# Altium footprint library Stm32_pcb_lib.PcbLib: 16 footprints
Each footprint in its own frame and in the unit in brackets; x right, y up, seen from the top. Pads: shape width x height; smd on the part's side, far side on the other; paste and mask are expansions set on the pad; w line width, h text height; cw(c..) or ccw(c..) is an arc to the next point about the centre after c.
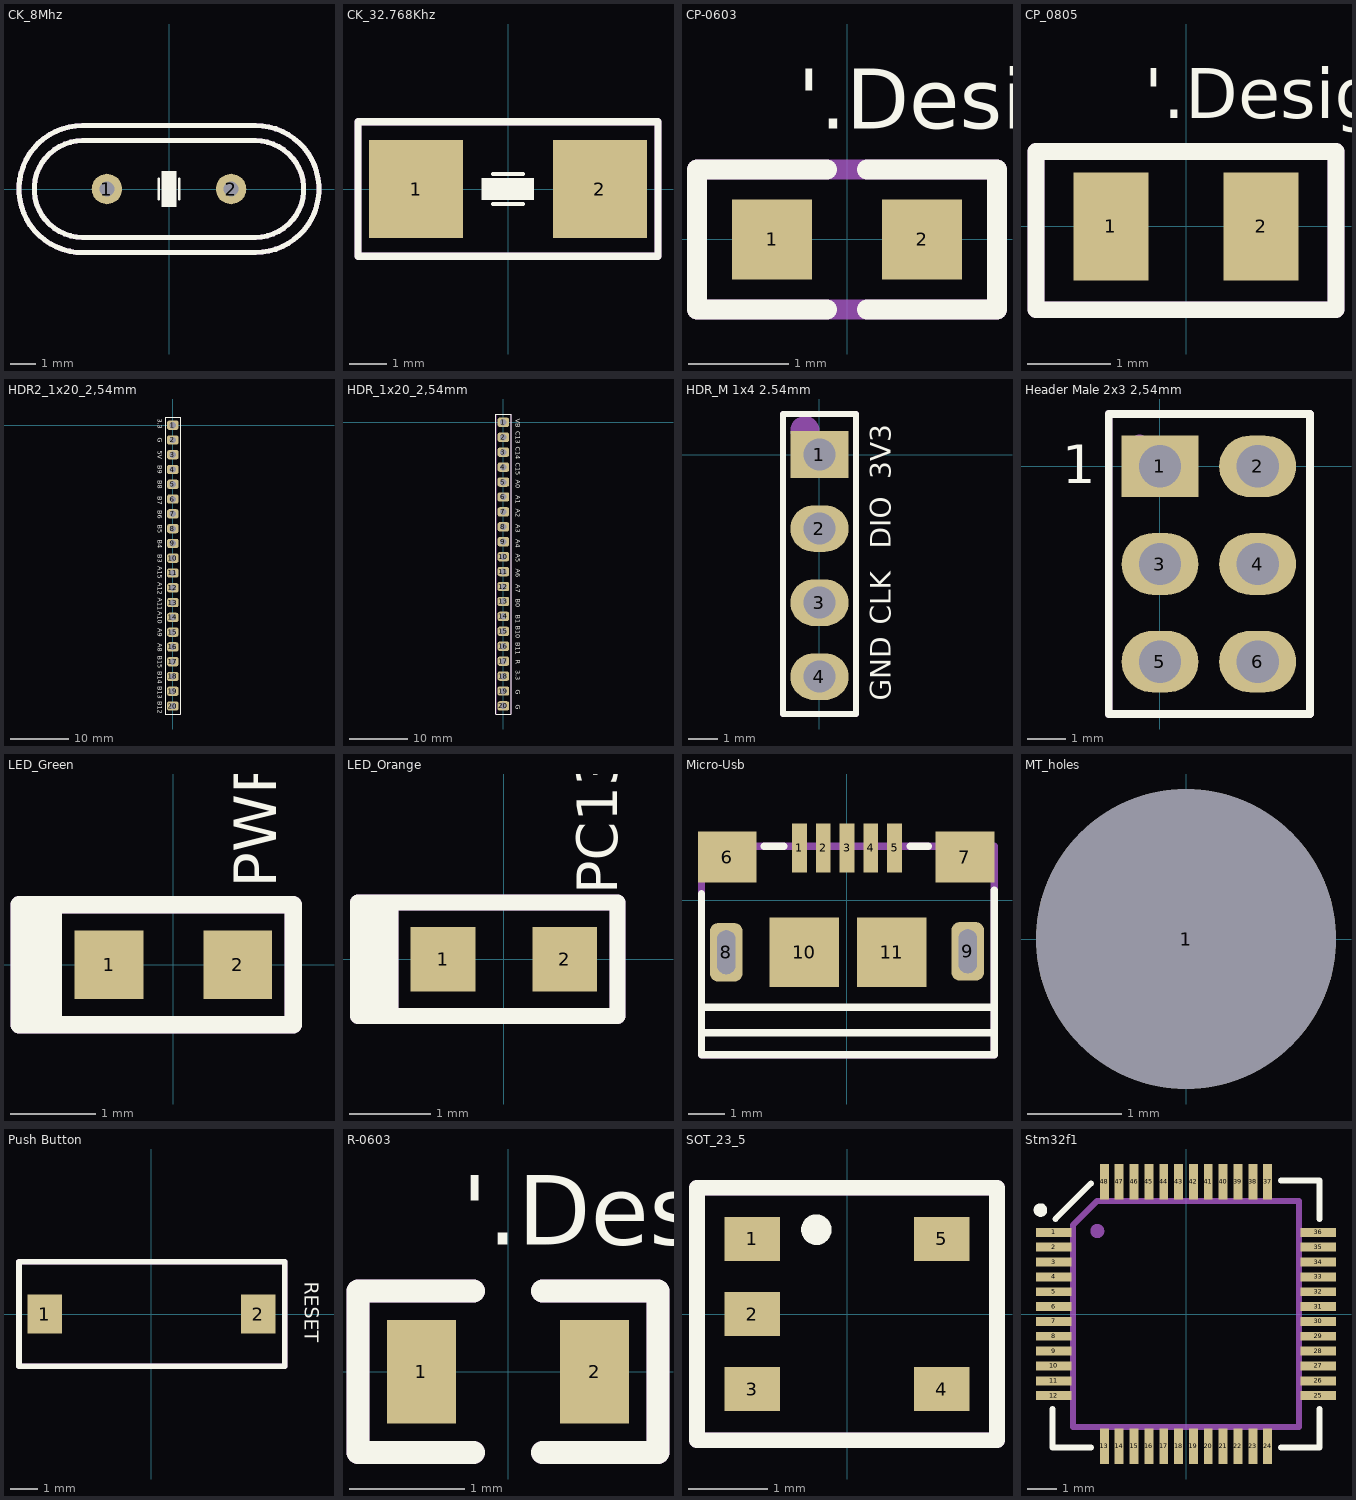
[diagram p0: the footprints below, top view; thin cyan lines are the x and y axes]

## CK_8Mhz [mm]
pads (2):
  round 1.2 hole 0.6: 1(-2.44,0) 2(2.44,0)
Top Overlay:
  rectangle: -0.3,-0.7 0.3,0.7
  lines w0.1: -0.4,-0.4 -0.4,0.4 ; 0.4,-0.4 0.4,0.4
  lines w0.2: -3.356,-2.5 3.4,-2.5 ccw(c3.4,0) 3.4,2.5 -3.4,2.5 ccw(c-3.4,0) -3.356,-2.5 ; -3.4,-1.9 cw(c-3.4,0) -3.4,1.9 3.4,1.9 cw(c3.4,0) 3.4,-1.9 -3.4,-1.9
Assembly Notes:
  lines w0.2: -3.356,-2.5 3.4,-2.5 ccw(c3.4,0) 3.4,2.5 -3.4,2.5 ccw(c-3.4,0) -3.356,-2.5 ; -3.4,-1.9 cw(c-3.4,0) -3.4,1.9 3.4,1.9 cw(c3.4,0) 3.4,-1.9 -3.4,-1.9
  text "'.Designator'" at -1.146,-0.863 h1.52
3D body "ABRACON_ABL-8.000MHZ-B2.STEP": height 3.51, standoff -2.06, extent -5.75,-2.5 5.75,2.5

## CK_32.768Khz [mm]
pads (2):
  rect 2.5x2.6 smd: 1(-2.45,0) 2(2.45,0)
Top Overlay:
  rectangle: -0.7,-0.3 0.7,0.3
  lines w0.1: -0.4,-0.4 0.4,-0.4 ; -0.4,0.4 0.4,0.4
  lines w0.2: -4,-1.8 -4,1.8 4,1.8 4,-1.8 -4,-1.8
Assembly Notes:
  lines w0.2: -4,-1.8 -4,1.8 4,1.8 4,-1.8 -4,-1.8
  text "'.Designator'" at -1.146,-0.938 h1.52
3D body "User Library-ABM7.step": height 1.45, standoff 0.01, extent -3.05,-1.75 3.05,1.75

## CP-0603 [mm]
pads (2):
  rect 0.8x0.8 smd: 1(-0.75,0) 2(0.75,0)
Top Overlay:
  lines w0.2: -0.2,-0.7 -1.5,-0.7 -1.5,0.7 -0.2,0.7 ; 0.2,-0.7 0.3,-0.7 1.5,-0.7 1.5,0.7 0.2,0.7
  text "'.Designator'" at -0.49,1.11 h0.6
Assembly Notes:
  lines w0.2: -1.5,-0.7 -0.2,-0.7 0.2,-0.7 0.3,-0.7 1.5,-0.7 1.5,0.7 0.2,0.7 -0.2,0.7 -1.5,0.7 -1.5,-0.7
  text "'.Designator'" at -0.49,-0.39 h0.6
3D body "User Library-SMD CAPACITOR.step": height 0.81, standoff 0.01, extent -0.8,-0.4 0.8,0.4

## CP_0805 [mm]
pads (2):
  rect 0.9x1.3 smd: 1(-0.9,0) 2(0.9,0)
Top Overlay:
  lines w0.2: -1.8,-1 -1.8,0.9 1.8,0.9 1.8,-1 -1.8,-1
  text "'.Designator'" at -0.5,1.3 h0.6
Assembly Notes:
  lines w0.2: -1.8,-1 -1.8,0.9 1.8,0.9 1.8,-1 -1.8,-1
  text "'.Designator'" at -0.5,-0.3 h0.6
3D body "CAPC2012X95N EIA 0805.step": height 0.96, standoff 0.01, extent -1,-0.6 1,0.6

## HDR2_1x20_2,54mm [mm]
pads (20):
  rrect50% 2x1.6 hole 1.1: 1(0,0) 2(0,-2.54) 3(0,-5.08) 4(0,-7.62) 5(0,-10.16) 6(0,-12.7) 7(0,-15.24) 8(0,-17.78) 9(0,-20.32) 10(0,-22.86) 11(0,-25.4) 12(0,-27.94) 13(0,-30.48) 14(0,-33.02) 15(0,-35.56) 16(0,-38.1) 17(0,-40.64) 18(0,-43.18) 19(0,-45.72) 20(0,-48.26)
Top Overlay:
  lines w0.2: -1.3,-49.63 -1.3,1.37 1.3,1.37 1.3,-49.63 -1.3,-49.63
  text "B12" at -2.62,-47.48 h0.8
  text "B13" at -2.62,-44.88 h0.8
  text "B14" at -2.62,-42.28 h0.8
  text "B15" at -2.62,-39.58 h0.8
  text "A8" at -2.62,-37.48 h0.8
  text "A9" at -2.62,-34.88 h0.8
  text "A10" at -2.62,-31.98 h0.8
  text "A11" at -2.62,-29.68 h0.8
  text "A12" at -2.62,-26.98 h0.8
  text "A15" at -2.62,-24.28 h0.8
  text "B3" at -2.62,-22.18 h0.8
  text "B4" at -2.62,-19.68 h0.8
  text "B5" at -2.62,-17.08 h0.8
  text "B6" at -2.62,-14.58 h0.8
  text "B7" at -2.62,-12.18 h0.8
  text "B8" at -2.62,-9.48 h0.8
  text "B9" at -2.62,-6.88 h0.8
  text "5V" at -2.62,-4.38 h0.8
  text "G" at -2.62,-2.18 h0.8
  text "3.3" at -2.62,1.12 h0.8
Assembly Notes:
  circle w0.4: c0,0 r0.2
  lines w0.2: -1.3,-49.63 -1.3,1.37 1.3,1.37 1.3,-49.63 -1.3,-49.63
  text "B12" at -2.62,-47.48 h0.8
  text "B13" at -2.62,-44.88 h0.8
  text "B14" at -2.62,-42.28 h0.8
  text "B15" at -2.62,-39.58 h0.8
  text "A8" at -2.62,-37.48 h0.8
  text "A9" at -2.62,-34.88 h0.8
  text "A10" at -2.62,-31.98 h0.8
  text "A11" at -2.62,-29.68 h0.8
  text "A12" at -2.62,-26.98 h0.8
  text "A15" at -2.62,-24.28 h0.8
  text "B3" at -2.62,-22.18 h0.8
  text "B4" at -2.62,-19.68 h0.8
  text "B5" at -2.62,-17.08 h0.8
  text "B6" at -2.62,-14.58 h0.8
  text "B7" at -2.62,-12.18 h0.8
  text "B8" at -2.62,-9.48 h0.8
  text "B9" at -2.62,-6.88 h0.8
  text "5V" at -2.62,-4.38 h0.8
  text "G" at -2.62,-2.18 h0.8
  text "3.3" at -2.62,1.12 h0.8
  text "'.Designator'" at -0.738,-21.284 h1.52
3D body "m20-9992046_asm.stp": height 5.7, standoff -5.98, extent -1.27,-49.43 1.27,1.37

## HDR_1x20_2,54mm [mm]
pads (20):
  rrect50% 2x1.6 hole 1.1: 1(0,0) 2(0,-2.54) 3(0,-5.08) 4(0,-7.62) 5(0,-10.16) 6(0,-12.7) 7(0,-15.24) 8(0,-17.78) 9(0,-20.32) 10(0,-22.86) 11(0,-25.4) 12(0,-27.94) 13(0,-30.48) 14(0,-33.02) 15(0,-35.56) 16(0,-38.1) 17(0,-40.64) 18(0,-43.18) 19(0,-45.72) 20(0,-48.26)
Top Overlay:
  lines w0.2: -1.3,-49.63 1.3,-49.63 1.3,1.37 -1.3,1.37 -1.3,-49.6
  text "A5" at 2.08,-22.38 h0.8
  text "A2" at 2.08,-14.68 h0.8
  text "A3" at 2.08,-17.38 h0.8
  text "A4" at 2.08,-19.88 h0.8
  text "A6" at 2.08,-24.88 h0.8
  text "A7" at 2.08,-27.58 h0.8
  text "A1" at 2.08,-12.38 h0.8
  text "VB" at 2.08,0.62 h0.8
  text "C13" at 2.08,-1.48 h0.8
  text "C14" at 2.08,-4.18 h0.8
  text "C15" at 2.08,-6.88 h0.8
  text "A0" at 2.08,-9.78 h0.8
  text "B1" at 2.08,-32.78 h0.8
  text "B0" at 2.08,-29.98 h0.8
  text "B10" at 2.08,-34.58 h0.8
  text "B11" at 2.08,-37.38 h0.8
  text "R" at 2.08,-40.38 h0.8
  text "3.3" at 2.08,-42.18 h0.8
  text "G" at 2.08,-45.48 h0.8
  text "G" at 2.08,-48.08 h0.8
Assembly Notes:
  circle w0.4: c0,0 r0.2
  lines w0.2: -1.3,-49.63 1.3,-49.63 1.3,1.37 -1.3,1.37 -1.3,-49.63
  text "'.Designator'" at -0.738,-21.284 h1.52
  text "VB" at 2.08,0.62 h0.8
  text "C13" at 2.08,-1.48 h0.8
  text "C14" at 2.08,-4.18 h0.8
  text "C15" at 2.08,-6.88 h0.8
  text "A0" at 2.08,-9.78 h0.8
  text "A1" at 2.08,-12.38 h0.8
  text "A2" at 2.08,-14.68 h0.8
  text "A3" at 2.08,-17.38 h0.8
  text "A4" at 2.08,-19.88 h0.8
  text "A5" at 2.08,-22.38 h0.8
  text "A6" at 2.08,-24.88 h0.8
  text "A7" at 2.08,-27.58 h0.8
  text "B0" at 2.08,-29.98 h0.8
  text "B1" at 2.08,-32.78 h0.8
  text "B10" at 2.08,-34.58 h0.8
  text "B11" at 2.08,-37.38 h0.8
  text "R" at 2.08,-40.38 h0.8
  text "3.3" at 2.08,-42.18 h0.8
  text "G" at 2.08,-45.48 h0.8
  text "G" at 2.08,-48.08 h0.8
3D body "m20-9992046_asm.stp": height 5.7, standoff -5.98, extent -1.27,-49.43 1.27,1.37

## HDR_M 1x4 2.54mm [mm]
pads (4):
  rect 2x1.6 hole 1.1: 1(0,0)
  oval 2x1.6 hole 1.1: 2(0,-2.54) 3(0,-5.08) 4(0,-7.62)
Top Overlay:
  lines w0.2: -1.25,-8.9 -1.25,1.39 1.25,1.39 1.25,-8.9 -1.25,-8.9
  text "3V3" at 2.44,-0.84 h0.7
  text "DIO" at 2.44,-3.24 h0.7
  text "CLK" at 2.44,-5.84 h0.7
  text "GND" at 2.44,-8.44 h0.7
Assembly Notes:
  circle w0.5: c-0.5,0.82 r0.25
  lines w0.2: -1.25,-8.9 -1.25,1.39 1.25,1.39 1.25,-8.9 -1.25,-8.9
  text "'.Designator'" at 0.738,-6.556 h1.52
3D body "User Library-1x4 TH Pitch 2_54mm.STEP": height 9.21, standoff -3.49, extent -1.27,-8.89 1.27,1.27

## Header Male 2x3 2,54mm [mm]
pads (6):
  rect 2x1.6 hole 1.1: 1(0,0)
  oval 2x1.6 hole 1.1: 2(2.54,0) 3(0,-2.54) 4(2.54,-2.54) 5(0,-5.08) 6(2.54,-5.08)
Top Overlay:
  lines w0.2: -1.33,-6.44 -1.33,1.36 3.9,1.36 3.9,-6.44 -1.33,-6.44
  text "1" at -2.546,-0.446 h1
Assembly Notes:
  circle w0.3: c-0.53,0.56 r0.112
  lines w0.2: -1.33,-6.44 -1.33,1.36 3.9,1.36 3.9,-6.44 -1.33,-6.44
  text "'.Designator'" at -1.476,-3.178 h1.52
3D body "User Library-2x3 TH Pitch 2_54mm.STEP": height 9.21, standoff -3.49, extent -1.27,-6.35 3.81,1.27

## LED_Green [mm]
pads (2):
  rect 0.8x0.8 smd: 1(-0.75,0) 2(0.75,0)
Top Overlay:
  rectangle: -1.8,-0.8 -1.3,0.8
  lines w0.2: -1.8,-0.7 -1.8,0.7 1.4,0.7 1.4,-0.7 -1.8,-0.7
  text "PWR" at 1.2,0.9 h0.5
Assembly Notes:
  rectangle: -1.8,-0.8 -1.3,0.8
  lines w0.2: -1.8,-0.7 -1.8,0.7 1.4,0.7 1.4,-0.7 -1.8,-0.7
  text "'.Designator'" at -0.475,-0.375 h0.6
3D body "User Library-SMD LED 0603.step": height 0.4, standoff 0.01, extent -0.8,-0.4 0.8,0.4

## LED_Orange [mm]
pads (2):
  rect 0.8x0.8 smd: 1(-0.75,0) 2(0.75,0)
Top Overlay:
  rectangle: -1.8,-0.8 -1.3,0.8
  lines w0.2: -1.8,-0.7 1.4,-0.7 1.4,0.7 -1.8,0.7 -1.8,-0.7
  text "PC13" at 1.4,0.8 h0.5
Assembly Notes:
  rectangle: -1.8,-0.8 -1.3,0.8
  lines w0.2: -1.8,-0.7 1.4,-0.7 1.4,0.7 -1.8,0.7 -1.8,-0.7
  text "'.Designator'" at -0.45,-0.35 h0.6
3D body "User Library-0603 LED_ora.step": height 0.71, standoff 0.01, extent -0.8,-0.4 0.8,0.4

## Micro-Usb [mm]
pads (11):
  rect 0.4x1.35 smd mask+0.05: 1(-1.3,1.425) 2(-0.65,1.425) 3(0,1.425) 4(0.65,1.425) 5(1.3,1.425)
  rect 1.6x1.4 smd mask+0.05: 6(-3.275,1.175) 7(3.225,1.175)
  rrect50% 0.9x1.6 hole 0.5 slot 1.2 at 90 deg mask+0.05: 8(-3.3,-1.425) 9(3.3,-1.4)
  rect 1.9x1.9 smd mask+0.05: 10(-1.175,-1.425) 11(1.225,-1.425)
Top Overlay:
  lines w0.2: -3.975,-2.925 4.025,-2.925 ; -3.975,0.175 -3.975,-4.225 4.025,-4.225 4.025,0.275 ; -2.261,1.473 -1.727,1.473 ; 0.025,-3.625 -3.975,-3.625 4.025,-3.625 ; 1.725,1.475 2.225,1.475
Assembly Notes:
  lines w0.2: -3.975,-4.225 4.025,-4.225 4.025,1.475 -3.975,1.475 -3.975,-4.225
  text "'.Designator'" at -1.196,-1.538 h1.52
3D body "10118193-0001lfc.stp": height 2.87, standoff -0.73, extent -3.928,-4.211 3.928,1.45

## MT_holes [mm]
pads (1):
  round 3.2 hole 3.2 unplated: 1(0,0)

## Push Button [mm]
pads (2):
  rect 1.25x1.4 smd: 1(-3.875,0) 2(3.875,0)
Top Overlay:
  lines w0.2: -4.8,-1.9 -4.8,1.9 4.826,1.9 4.826,-1.9 -4.8,-1.9
  text "RESET" at 5.563,1.168 h0.51
Assembly Notes:
  lines w0.2: -4.8,-1.9 -4.8,1.9 4.826,1.9 4.826,-1.9 -4.8,-1.9
  text "'.Designator'" at -1.146,-0.763 h1.52
  text "RESET" at 5.563,1.168 h0.51
3D body "PTS636SM25FSMTRLFS.stp": height 2.51, standoff 0.01, extent -3.987,-1.9 4.013,1.8

## R-0603 [mm]
pads (2):
  rect 0.6x0.9 smd: 1(-0.75,0) 2(0.75,0)
Top Overlay:
  lines w0.2: -0.3,-0.7 -1.3,-0.7 -1.3,0.7 -0.3,0.7 ; 0.3,-0.7 1.3,-0.7 1.3,0.7 0.3,0.7
  text "'.Designator'" at -0.4,1.1 h0.6
Assembly Notes:
  lines w0.2: -0.3,-0.7 -1.3,-0.7 -1.3,0.7 -0.3,0.7 ; 0.3,-0.7 1.3,-0.7 1.3,0.7 0.3,0.7
  text "'.Designator'" at -0.5,-0.3 h0.6
3D body "R0603.step": height 0.81, standoff 0.01, extent -0.825,-0.415 0.775,0.425

## SOT_23_5 [mm]
pads (5):
  rect 0.7x0.56 smd: 1(-1.2,0.95) 2(-1.2,0) 3(-1.2,-0.95) 4(1.2,-0.95) 5(1.2,0.95)
Top Overlay:
  circle w0.2: c-0.388,1.068 r0.093
  lines w0.2: -1.9,-1.6 -1.9,1.5 -1.9,1.6 1.6,1.6 1.9,1.6 1.9,1.5 1.9,-1.6 -1.9,-1.6
Assembly Notes:
  circle w0.2: c-1.2,0.975 r0.093
  lines w0.2: -1.9,-1.6 -1.9,1.5 -1.9,1.6 1.6,1.6 1.9,1.6 1.9,1.5 1.9,-1.6 -1.9,-1.6
  text "'.Designator'" at -0.44,-0.415 h0.6
3D body "CircuitWorks-SOT-23-5.step": height 1.11, standoff 0.01, extent -1.25,-1.5 1.25,1.5

## Stm32f1 [mm]
pads (48):
  rect 1.2x0.3 smd mask+0.03: 1(-4.45,2.75) 2(-4.45,2.25) 3(-4.45,1.75) 4(-4.45,1.25) 5(-4.45,0.75) 6(-4.45,0.25) 7(-4.45,-0.25) 8(-4.45,-0.75) 9(-4.45,-1.25) 10(-4.45,-1.75) 11(-4.45,-2.25) 12(-4.45,-2.75) 25(4.45,-2.75) 26(4.45,-2.25) 27(4.45,-1.75) 28(4.45,-1.25) 29(4.45,-0.75) 30(4.45,-0.25) 31(4.45,0.25) 32(4.45,0.75) 33(4.45,1.25) 34(4.45,1.75) 35(4.45,2.25) 36(4.45,2.75)
  rect 0.3x1.2 smd mask+0.03: 13(-2.75,-4.45) 14(-2.25,-4.45) 15(-1.75,-4.45) 16(-1.25,-4.45) 17(-0.75,-4.45) 18(-0.25,-4.45) 19(0.25,-4.45) 20(0.75,-4.45) 21(1.25,-4.45) 22(1.75,-4.45) 23(2.25,-4.45) 24(2.75,-4.45) 37(2.75,4.45) 38(2.25,4.45) 39(1.75,4.45) 40(1.25,4.45) 41(0.75,4.45) 42(0.25,4.45) 43(-0.25,4.45) 44(-0.75,4.45) 45(-1.25,4.45) 46(-1.75,4.45) 47(-2.25,4.45) 48(-2.75,4.45)
Top Overlay:
  circle w0.254: c-4.9,3.5 r0.1
  lines w0.2: -4.5,-3.2 -4.5,-4.5 -3.2,-4.5 ; -4.4,3.2 -3.2,4.4 ; 3.2,-4.5 4.5,-4.5 4.5,-3.2 ; 3.2,4.5 4.5,4.5 4.5,3.2
Assembly Notes:
  circle w0.254: c-2.986,2.793 r0.108
  lines w0.2: -3.8,-3.8 -3.8,3 -3,3.8 3.8,3.8 3.8,-3.8 -3.8,-3.8
  text "'.Designator'" at -1.146,-0.938 h1.52
3D body "User Library-STM32F103C8T6.step": height 1.56, standoff 0.01, extent -4.5,-4.5 4.5,4.5